# Altium integrated library 2041126-1.IntLib: 1 symbol
Pins are listed as number, name and electrical type; pins without a type are passive.

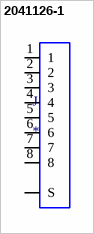
[diagram p0: symbol 2041126-1]

## 2041126-1
designator J
MODULAR JACK, RJ45, SMT TYPE, AU: 6u''; MP: 2041126-1; MF: TE Connectivity; EU_RoHS_Compliance: Compliant; Availability: Unavailable; SnapEDA_Link: https://www.snapeda.com/parts/2041126-1/TE%20Connectivity%20AMP%20Connectors/view-part/2187055/?ref=snap; TE_purchase_URL: https://www.te.com/usa-en/product-2041126-1.html?te_bu=Cor&te_type=disp&te_campaign=seda_glo_cor-seda-global-disp-prtnr-fy19-seda-model-bom-cta_sma-317_1&elqCampaignId=32493; Package: None; Price: None; Value: *
footprint TE_2041126-1
pins: 1, 2, 3, 4, 5, 6, 7, 8, S1 S, S2 S